# Altium footprint library PEPLLIB.PcbLib: 78 footprints (part 3 of 5)
Each footprint in its own frame and in the unit in brackets; x right, y up, seen from the top. Pads: shape width x height; smd on the part's side, far side on the other; paste and mask are expansions set on the pad; w line width, h text height; cw(c..) or ccw(c..) is an arc to the next point about the centre after c.
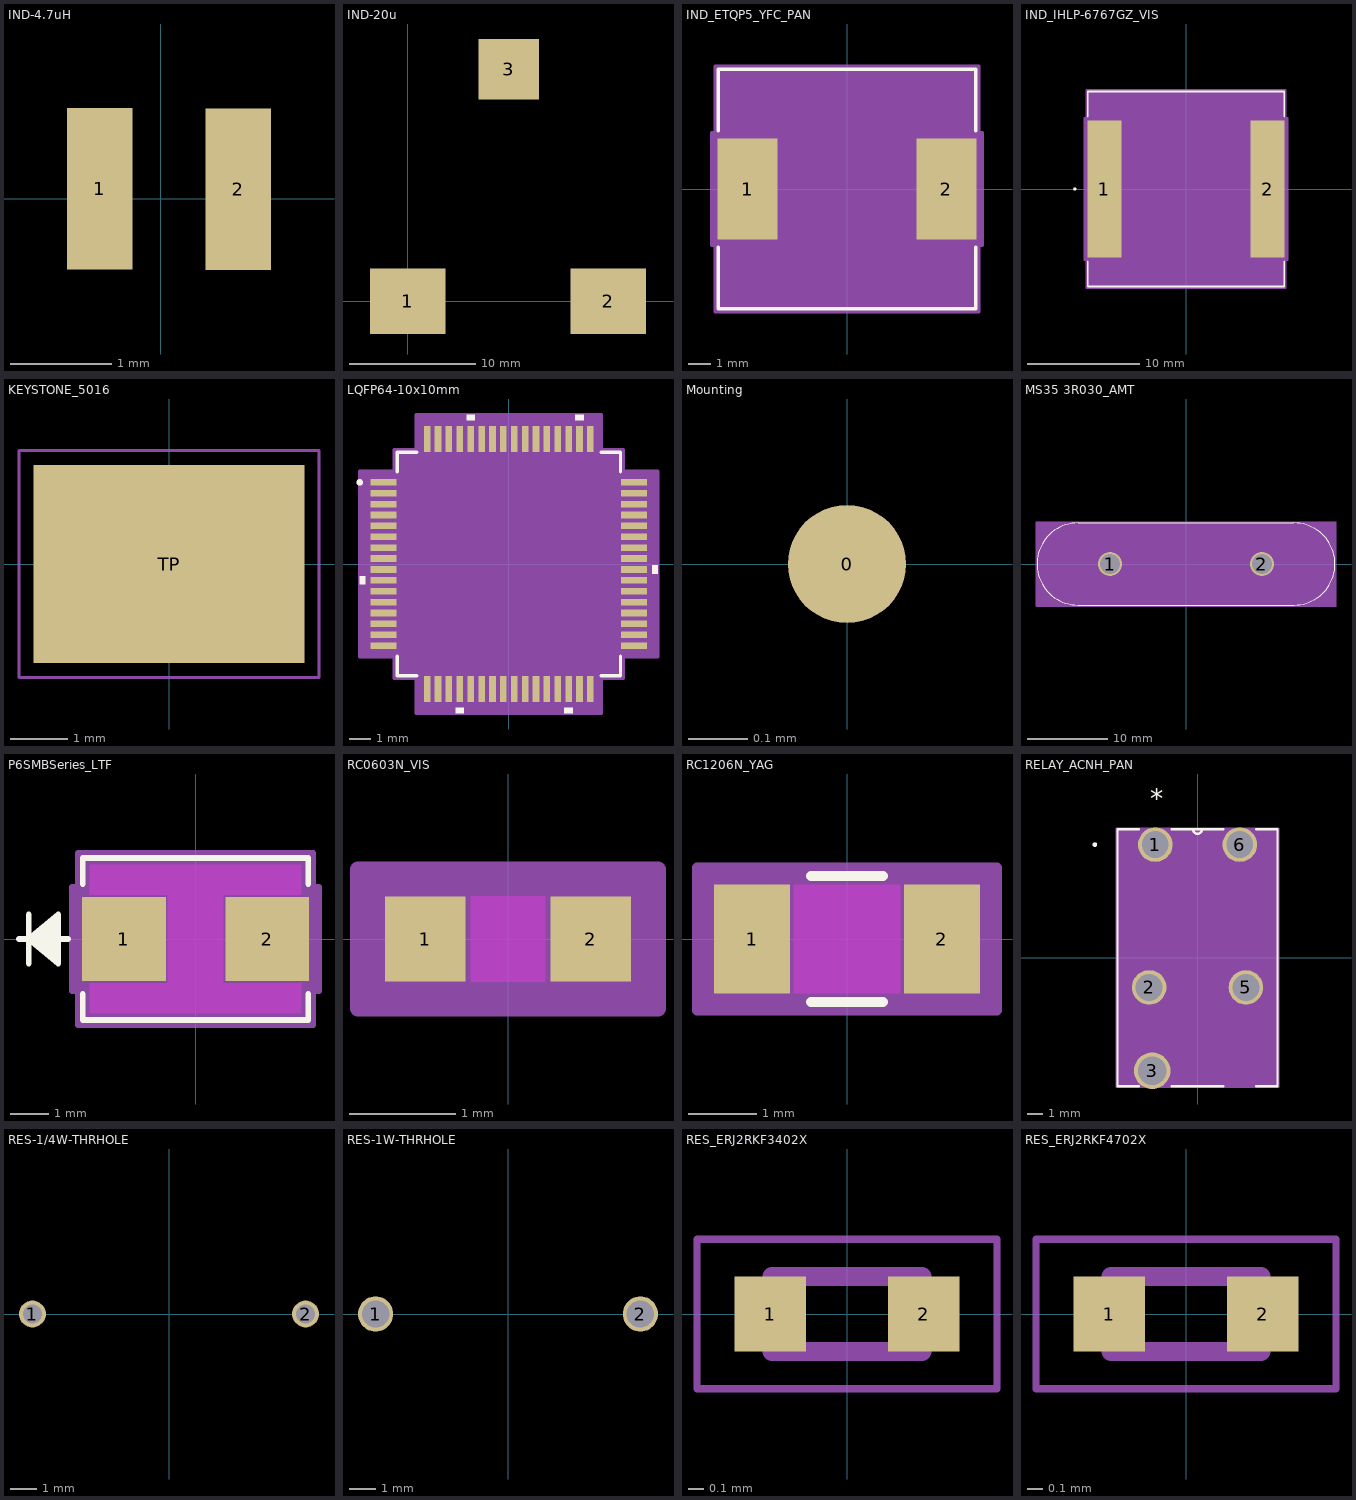
[diagram p2: the footprints below, top view; thin cyan lines are the x and y axes]

## IND-4.7uH [mm]
pads (2):
  rect 0.65x1.6 smd paste-2539.97: 1(-0.6,0.1) 2(0.767,0.097)

## IND-20u [mm]
pads (3):
  rect 6x5.2 all layers, no hole paste-2539.97 mask-0.737: 1(0,0) 2(15.9,0)
  rect 4.8x4.8 all layers, no hole paste-2539.97 mask-0.737: 3(8,18.4)
3D body "B82559AxA024_ERU24_20.9mm_MAX_public_TDK-PC.step": height 21.1, standoff -0.2, extent -4.349,-1.278 20.351,21.522

## IND_ETQP5_YFC_PAN [mil]
pads (2):
  rect 105x177 smd paste+0 mask+0: 1(-174,0) 2(174,0)
Top Overlay:
  lines w6: -225.5,-101.6 -225.5,-209.5 225.5,-209.5 225.5,-101.6 ; -225.5,101.6 -225.5,209.5 225.5,209.5 225.5,101.6
Mechanical 13:
  lines w1: -220.5,-204.5 220.5,-204.5 220.5,204.5 -220.5,204.5 -220.5,-204.5
Mechanical 15:
  region: -230.5,-98.5 -236.5,-98.5 -236.5,98.5 -230.5,98.5 -230.5,214.5 230.5,214.5 230.5,98.5 236.5,98.5 236.5,-98.5 230.5,-98.5 230.5,-214.5 -230.5,-214.5
  lines w6: -236.5,-98.5 -236.5,98.5 -230.5,98.5 -230.5,214.5 230.5,214.5 230.5,98.5 236.5,98.5 236.5,-98.5 230.5,-98.5 230.5,-214.5 -230.5,-214.5 -230.5,-98.5 -236.5,-98.5
3D body "IND_ETQP5_YFC_PAN.step": height 215, standoff 0, extent -220.51,-204.49 220.51,204.49

## IND_IHLP-6767GZ_VIS [mil]
pads (2):
  rect 119x480 smd paste+0 mask+0: 1(-286.5,0) 2(286.5,0)
Top Overlay:
  circle w6: c-390,0 r3
  lines w6: -345,-253.1 -345,-342.5 345,-342.5 345,-253.1 ; -345,253.1 -345,342.5 345,342.5 345,253.1
Mechanical 13:
  circle w0: c-320,0 r3
  lines w1: -340,-337.5 340,-337.5 340,337.5 -340,337.5 -340,-337.5
Mechanical 15:
  region: -350,-250 -356,-250 -356,250 -350,250 -350,347.5 350,347.5 350,250 356,250 356,-250 350,-250 350,-347.5 -350,-347.5
  lines w6: -356,-250 -356,250 -350,250 -350,347.5 350,347.5 350,250 356,250 356,-250 350,-250 350,-347.5 -350,-347.5 -350,-250 -356,-250
3D body "IND_IHLP-6767GZ_VIS.step": height 277.99, standoff 0, extent -340,-337.48 340,337.48

## KEYSTONE_5016 [mm]
height 2.29
pads (1):
  rect 4.7x3.43 smd: TP(0,0)
Mechanical 13:
  lines w0.127: -1.905,-1.42 1.905,-1.42 1.905,1.42 -1.905,1.42 -1.905,-1.42
Mechanical 15:
  lines w0.05: -2.6,-1.965 -2.6,1.965 2.6,1.965 2.6,-1.965 -2.6,-1.965
3D body "step_temp.STEP": height 2.29, standoff 0, extent -1.905,-1.422 1.905,1.422

## LQFP64-10x10mm [mm]
pads (64):
  rect 1.194x0.305 smd paste+0 mask+0: 1(-5.75,3.75) 2(-5.75,3.25) 3(-5.75,2.75) 4(-5.75,2.25) 5(-5.75,1.75) 6(-5.75,1.25) 7(-5.75,0.75) 8(-5.75,0.25) 9(-5.75,-0.25) 10(-5.75,-0.75) 11(-5.75,-1.25) 12(-5.75,-1.75) 13(-5.75,-2.25) 14(-5.75,-2.75) 15(-5.75,-3.25) 16(-5.75,-3.75) 33(5.75,-3.75) 34(5.75,-3.25) 35(5.75,-2.75) 36(5.75,-2.25) 37(5.75,-1.75) 38(5.75,-1.25) 39(5.75,-0.75) 40(5.75,-0.25) 41(5.75,0.25) 42(5.75,0.75) 43(5.75,1.25) 44(5.75,1.75) 45(5.75,2.25) 46(5.75,2.75) 47(5.75,3.25) 48(5.75,3.75)
  rect 0.305x1.194 smd paste+0 mask+0: 17(-3.75,-5.75) 18(-3.25,-5.75) 19(-2.75,-5.75) 20(-2.25,-5.75) 21(-1.75,-5.75) 22(-1.25,-5.75) 23(-0.75,-5.75) 24(-0.25,-5.75) 25(0.25,-5.75) 26(0.75,-5.75) 27(1.25,-5.75) 28(1.75,-5.75) 29(2.25,-5.75) 30(2.75,-5.75) 31(3.25,-5.75) 32(3.75,-5.75) 49(3.75,5.75) 50(3.25,5.75) 51(2.75,5.75) 52(2.25,5.75) 53(1.75,5.75) 54(1.25,5.75) 55(0.75,5.75) 56(0.25,5.75) 57(-0.25,5.75) 58(-0.75,5.75) 59(-1.25,5.75) 60(-1.75,5.75) 61(-2.25,5.75) 62(-2.75,5.75) 63(-3.25,5.75) 64(-3.75,5.75)
Top Overlay:
  circle w0.152: c-6.851,3.75 r0.076
  region: -6.601,-0.56 -6.855,-0.56 -6.855,-0.941 -6.601,-0.941
  region: -2.06,-6.601 -2.441,-6.601 -2.441,-6.855 -2.06,-6.855
  region: 2.94,-6.601 2.559,-6.601 2.559,-6.855 2.94,-6.855
  region: 6.601,-0.059 6.855,-0.059 6.855,-0.44 6.601,-0.44
  region: 3.441,6.601 3.06,6.601 3.06,6.855 3.441,6.855
  region: -1.559,6.601 -1.94,6.601 -1.94,6.855 -1.559,6.855
  lines w0.152: -5.131,-4.234 -5.131,-5.131 -4.234,-5.131 ; -5.131,4.234 -5.131,5.131 -4.234,5.131 ; 4.234,-5.131 5.131,-5.131 5.131,-4.234 ; 4.234,5.131 5.131,5.131 5.131,4.234
Mechanical 13:
  circle w0: c-4.518,3.75 r0.076
  lines w0.025: -5.004,3.734 -3.734,5.004 ; -5.004,-5.004 5.004,-5.004 5.004,5.004 -5.004,5.004 -5.004,-5.004
Mechanical 15:
  region: -4.258,-5.258 -5.258,-5.258 -5.258,-4.258 -6.855,-4.258 -6.855,4.258 -5.258,4.258 -5.258,5.258 -4.258,5.258 -4.258,6.855 4.258,6.855 4.258,5.258 5.258,5.258 5.258,4.258 6.855,4.258 6.855,-4.258 5.258,-4.258 5.258,-5.258 4.258,-5.258 4.258,-6.855 -4.258,-6.855
  lines w0.152: -6.855,-4.258 -5.258,-4.258 -5.258,-5.258 -4.258,-5.258 -4.258,-6.855 4.258,-6.855 4.258,-5.258 5.258,-5.258 5.258,-4.258 6.855,-4.258 6.855,4.258 5.258,4.258 5.258,5.258 4.258,5.258 4.258,6.855 -4.258,6.855 -4.258,5.258 -5.258,5.258 -5.258,4.258 -6.855,4.258 -6.855,-4.258
3D body "LQFP64-10x10mm.step": height 1.6, standoff 0, extent -5.997,-5.997 5.997,5.997

## Mounting [mm]
pads (1):
  round 0.2 all layers, no hole paste-2539.97 mask-0.737: 0(0,0)

## MS35 3R030_AMT [mil]
pads (2):
  round 118 / inner round 60 / far side round 118 hole 98 paste-99999 mask+0: 1(-374.02,0) 2(374.02,0)
Top Overlay:
  lines w6: -531.5,-202 cw(c-531.5,0) -531.5,202 531.5,202 cw(c531.5,0) 733.5,0 cw(c531.5,0) 531.5,-202 -531.5,-202
Mechanical 13:
  lines w0: -531.5,-197 cw(c-531.5,0) -531.5,197 ; 531.5,-197 ccw(c531.5,0) 531.5,197
  lines w1: -531.5,-197 531.5,-197 ; -531.5,197 531.5,197
Mechanical 15:
  region: 738.5,-207 -738.5,-207 -738.5,207 738.5,207
  lines w6: -738.5,-207 -738.5,207 738.5,207 738.5,-207 -738.5,-207
3D body "MS353R030_AMT.step": height 1732.01, standoff -349.45, extent -720.63,-200.79 736.38,193.23

## P6SMBSeries_LTF [mil]
pads (2):
  rect 85.59x86 smd paste+0 mask+0: 1(-73.11,0) 2(73.11,0)
Top Layer keep-out:
  region: -28.32,-45 -28.32,45 28.32,45 28.32,-45
  region: -108,45 -108,75.5 108,75.5 108,45
  region: -108,-75.5 -108,-45 108,-45 108,-75.5
Top Overlay:
  lines w6: -180,0 -130,0 ; -170,-25 -170,25 ; -140,-20 -170,0 ; -140,-15 -170,0 ; -140,-10 -170,0 ; -140,-5 -170,0 ; -140,5 -170,0 ; -140,10 -170,0 ; -140,15 -170,0 ; -140,20 -170,0 ; -115,-56.1 -115,-82.5 115,-82.5 115,-56.1 ; -115,56.1 -115,82.5 115,82.5 115,56.1 ; -170,0 -140,25 -140,-25 -170,0
Keep-Out Layer:
  region: -28.32,-45 -28.32,45 28.32,45 28.32,-45
Mechanical 13:
  lines w1: -180,0 -130,0 ; -170,-25 -170,25 ; -140,-20 -170,0 ; -140,-15 -170,0 ; -140,-10 -170,0 ; -140,-5 -170,0 ; -140,5 -170,0 ; -140,10 -170,0 ; -140,15 -170,0 ; -140,20 -170,0 ; -170,0 -140,25 -140,-25 -170,0 ; -110,-77.5 110,-77.5 110,77.5 -110,77.5 -110,-77.5
Mechanical 15:
  region: -120,-53 -125.91,-53 -125.91,53 -120,53 -120,87.5 120,87.5 120,53 125.91,53 125.91,-53 120,-53 120,-87.5 -120,-87.5
  lines w6: -125.91,-53 -125.91,53 -120,53 -120,87.5 120,87.5 120,53 125.91,53 125.91,-53 120,-53 120,-87.5 -120,-87.5 -120,-53 -125.91,-53
3D body "P6SMBSeries_LTF.step": height 97.99, standoff 0, extent -110,-77.48 110,77.48

## RC0603N_VIS [mm]
pads (2):
  rect 0.756x0.8 smd paste+0 mask+0: 1(-0.778,0) 2(0.778,0)
Top Layer keep-out:
  region: -0.349,-0.349 -0.349,0.349 0.349,0.349 0.349,-0.349
Keep-Out Layer:
  region: -0.349,-0.4 -0.349,0.4 0.349,0.4 0.349,-0.4
Mechanical 13:
  lines w0.025: -0.8,-0.4 -0.8,0.4 ; -0.8,-0.4 -0.4,-0.4 -0.4,0.4 -0.8,0.4 ; -0.8,-0.4 0.8,-0.4 ; -0.8,-0.4 -0.8,0.4 ; -0.8,0.4 0.8,0.4 ; 0.8,-0.4 0.4,-0.4 0.4,0.4 0.8,0.4 ; 0.8,-0.4 0.8,0.4 ; 0.8,-0.4 0.8,0.4
Mechanical 15:
  region: 1.41,-0.654 -1.41,-0.654 -1.41,0.654 1.41,0.654
  lines w0.152: -1.41,-0.654 -1.41,0.654 1.41,0.654 1.41,-0.654 -1.41,-0.654
3D body "RC0603N_VIS.step": height 0.71, standoff 0, extent -0.8,-0.4 0.8,0.4

## RC1206N_YAG [mil]
pads (2):
  rect 44x63 smd paste+0 mask+0: 1(-55,0) 2(55,0)
Top Layer keep-out:
  region: -31,-29.5 -31,29.5 31,29.5 31,-29.5
Top Overlay:
  lines w6: -20.89,-36.5 20.89,-36.5 ; -20.89,36.5 20.89,36.5
Keep-Out Layer:
  region: -31,-31.5 -31,31.5 31,31.5 31,-31.5
Mechanical 13:
  lines w1: -63,-31.5 -63,31.5 ; -63,-31.5 -33,-31.5 -33,31.5 -63,31.5 ; -63,-31.5 63,-31.5 ; -63,-31.5 -63,31.5 ; -63,31.5 63,31.5 ; 63,-31.5 33,-31.5 33,31.5 63,31.5 ; 63,-31.5 63,31.5 ; 63,-31.5 63,31.5
Mechanical 15:
  region: 87,-41.5 -87,-41.5 -87,41.5 87,41.5
  lines w6: -87,-41.5 -87,41.5 87,41.5 87,-41.5 -87,-41.5
3D body "RC1206N_YAG.step": height 27.99, standoff 0, extent -62.99,-31.5 62.99,31.5

## RELAY_ACNH_PAN [mil]
pads (5):
  round 90 / inner round 60 / far side round 90 hole 70 paste-99999 mask-45: 1(-110,294.5) 2(-126,-77.5) 5(126,-77.5) 6(110,294.5)
  round 95 / inner round 60 / far side round 95 hole 75 paste-99999 mask-47.5: 3(-118,-294.5)
Top Overlay:
  circle w6: c-267.5,294.5 r3
  lines w6: -152.14,-334.5 -208.5,-334.5 -208.5,334.5 -152.14,334.5 ; -67.86,-334.5 67.86,-334.5 ; -67.86,334.5 67.86,334.5 ; -12,334.5 ccw(c0,334.5) 12,334.5 ; 152.14,-334.5 208.5,-334.5 208.5,334.5 152.14,334.5
  text "*" at -122.5,389.17 h50
Mechanical 13:
  circle w0: c-267.5,294.5 r3
  lines w0: -12,334.5 ccw(c0,334.5) 12,334.5
  lines w1: -208.5,-334.5 208.5,-334.5 208.5,334.5 -208.5,334.5 -208.5,-334.5
  text "*" at -122.5,389.17 h50
Mechanical 15:
  region: 210.5,-336.5 -210.5,-336.5 -210.5,336.5 210.5,336.5
  lines w6: -210.5,-336.5 -210.5,336.5 210.5,336.5 210.5,-336.5 -210.5,-336.5

## RES-1/4W-THRHOLE [mm]
pads (2):
  round 1 / inner rect 1.473x0.559 / far side round 1 hole 0.7 paste-2539.97 mask-0.737: 1(-5.08,0) 2(5.08,0)

## RES-1W-THRHOLE [mm]
pads (2):
  round 1.35 / inner rect 1.473x0.559 / far side round 1.35 hole 1.05 paste-2539.97 mask-0.737: 1(-5.08,0) 2(5.08,0)

## RES_ERJ2RKF3402X [mm]
pads (2):
  rect 0.475x0.5 smd: 1(-0.512,0) 2(0.512,0)
Mechanical 13:
  lines w0.127: -0.5,-0.25 0.5,-0.25 0.5,0.25 -0.5,0.25 -0.5,-0.25
Mechanical 15:
  lines w0.05: -1,-0.5 1,-0.5 1,0.5 -1,0.5 -1,-0.5

## RES_ERJ2RKF4702X [mm]
pads (2):
  rect 0.475x0.5 smd: 1(-0.512,0) 2(0.512,0)
Mechanical 13:
  lines w0.127: -0.5,-0.25 0.5,-0.25 0.5,0.25 -0.5,0.25 -0.5,-0.25
Mechanical 15:
  lines w0.05: -1,-0.5 1,-0.5 1,0.5 -1,0.5 -1,-0.5